# Altium schematic symbol library Indication & Control.SchLib: 13 symbols
Pins are listed as number, name and electrical type; pins without a type are passive.

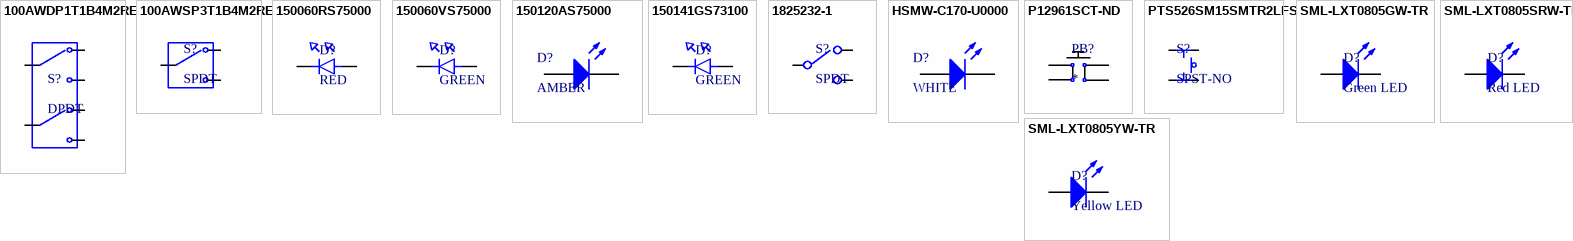
[diagram p0: symbols 100AWDP1T1B4M2RE to SML-LXT0805YW-TR]

## 100AWDP1T1B4M2RE
designator S?, comment DPDT
SWITCH TOGGLE DPDT 0.4VA 20V; Manufacturer: E-Switch; Manufacturer Part Number: 100AWDP1T1B4M2RE; Actuator Material: Brass,Chrome; Switch Function: On-On; Actuator Type: Standard Round; Current Rating: 400mA; Illumination Type: Non-Illuminated; Electrical Life: 30000Cycles; Actuator Length: 12.7mm; Ratings: IP67,Waterproof,Dust Tight; Supplier 1: Digi-Key; Supplier Part Number 1: EG2443-ND; RoHS: Yes; Category: Toggle Switches; Stock 1: 231; Mount: Through Hole; Contact Material: Copper Alloy; Contact Plating: Gold; Min Operating Temperature: -30°C; Max Operating Temperature: 85°C; Package Quantity: 1; Voltage Rating (AC): 20V; Voltage Rating (DC): 20V; Packaging: Bulk; Orientation: Vertical; Throw Configuration: DPDT; Termination: PC Pin; Length: 12.8mm; Width: 11.5mm; Lead Free: Lead Free; ComponentLink1URL: https://datasheet.ciiva.com/2904/t102102c-2904874.pdf?src-supplier=Digi-Key; ComponentLink1Description: https://datasheet.ciiva.com/2904/t102102c-2904874.pdf?src-supplier=Digi-Key
footprint 100AWDP1T1B4M2RE
pins: 1 NO1, 2 COM1, 3 NC1, 4 NO2, 5 COM2, 6 NC2

## 100AWSP3T1B4M2RE
designator S?, comment SPDT
SWITCH TOGGLE SPDT 0.4VA 20V; Manufacturer: E-Switch; Manufacturer Part Number: 100AWSP3T1B4M2RE; Actuator Material: Brass,Chrome; Illumination Type: Non-Illuminated,Illuminated; Electrical Life: 30000Cycles; Switch Function: On-Off-On; Actuator Type: Standard Round; Current Rating: 400mA; Actuator Length: 12.7mm; Ratings: IP67,Waterproof,Dust Tight; Supplier 1: Digi-Key; Supplier Part Number 1: EG2437-ND; RoHS: Yes; Category: Toggle Switches; Stock 1: 164; Mount: Through Hole; Contact Material: Gold; Contact Plating: Gold; Min Operating Temperature: -30°C; Max Operating Temperature: 85°C; Termination: PC Pin; Throw Configuration: SPDT; Orientation: Vertical; Package Quantity: 1; Voltage Rating (AC): 20V; Voltage Rating (DC): 20V; Packaging: Bulk; Length: 12.8mm; Width: 6.91mm; Lead Free: Lead Free; ComponentLink1URL: https://datasheet.ciiva.com/1194/100a-1-1194224.pdf?src-supplier=Newark; ComponentLink1Description: https://datasheet.ciiva.com/1194/100a-1-1194224.pdf?src-supplier=Newark; ComponentLink2URL: https://datasheet.ciiva.com/2904/t201111-2904864.pdf?src-supplier=Digi-Key; ComponentLink2Description: https://datasheet.ciiva.com/2904/t201111-2904864.pdf?src-supplier=Digi-Key
footprint 100AWSP3T1B4M2RE
pins: 1 NO, 2 COM, 3 NC

## 150060RS75000
designator D?, comment RED
WURTH ELEKTRONIK - 150060RS75000 - LED, Red, 625 nm, 2 V, 30 mA, 250 mcd RoHS Compliant: Yes; Manufacturer: Wurth Electronics; Viewing Angle: 140°; Lens Style: Clear,Rectangular; Luminous Intensity: 250mcd; Forward Current: 30mA; Forward Voltage: 2V; Wavelength: 625nm; Test Current: 20mA; Supplier 1: Digi-Key; Supplier Part Number 1: 732-4978-1-ND; Manufacturer Part Number: 150060RS75000; RoHS: Yes; Category: LEDs; Stock 1: 19381; Mount: Surface Mount; Case/Package: 0603; Case Code (Imperial): 0603; Color: Red; Case Code (Metric): 1608; Min Operating Temperature: -40°C; Max Operating Temperature: 85°C; Package Quantity: 1; Packaging: Cut Tape; Dominant Wavelength: 625nm; Length: 1.6mm; Height: 0.7mm; Width: 0.8mm; REACH SVHC: Unknown; ComponentLink1URL: https://datasheet.ciiva.com/29563/150060rs75000-29563040.pdf?src-supplier=Digi-Key; ComponentLink1Description: https://datasheet.ciiva.com/29563/150060rs75000-29563040.pdf?src-supplier=Digi-Key; ComponentLink2URL: https://datasheet.ciiva.com/29279/759428-da-01-en-chipled-0603-w-kl-rot-150060rs75000-29279196.pdf?src-supplier=Conrad; ComponentLink2Description: https://datasheet.ciiva.com/29279/759428-da-01-en-chipled-0603-w-kl-rot-150060rs75000-29279196.pdf?src-supplier=Conrad
footprint 0603 LED
pins: 1, 2

## 150060VS75000
designator D?, comment GREEN
WURTH ELEKTRONIK - 150060VS75000 - LED, Grün, Oberflächenmontage, 603, 30 mA, 2 V, 570 nm; Manufacturer: Wurth Electronics; Luminous Intensity: 40mcd; Viewing Angle: 140°; Forward Voltage: 2V; Wavelength: 570nm; Lens Style: Clear,Rectangular; Forward Current: 30mA; Test Current: 20mA; Supplier 1: Digi-Key; Supplier Part Number 1: 732-4980-1-ND; Manufacturer Part Number: 150060VS75000; RoHS: Yes; Category: LEDs; Stock 1: 29022; Mount: Surface Mount; Case/Package: 0603; Number of Pins: 2; Case Code (Metric): 1608; Case Code (Imperial): 0603; Color: Green; Min Operating Temperature: -40°C; Max Operating Temperature: 85°C; Package Quantity: 1; Packaging: Tape and Reel; Dominant Wavelength: 570nm; Length: 1.6mm; Height: 0.7mm; Width: 0.8mm; REACH SVHC: Unknown; ComponentLink1URL: https://datasheet.ciiva.com/29562/150060vs75000-29562919.pdf?src-supplier=Digi-Key; ComponentLink1Description: https://datasheet.ciiva.com/29562/150060vs75000-29562919.pdf?src-supplier=Digi-Key
footprint 0603 LED
pins: 1, 2

## 150120AS75000
designator D?, comment AMBER
WURTH ELEKTRONIK   150120AS75000   LED, 1206, AMBER, 140MCD, 605NM; Manufacturer 1: Wurth Electronics; Color: Orange; Forward Current: 30mA; Forward Voltage: 2V; Viewing Angle: 140°; Lens Style: Clear,Rectangular; Test Current: 20mA; Supplier 1: Digi-Key; Manufacturer Part Number 1: 150120AS75000; Stock 1: 2478; Pricing 1: 1=0.21000, 50=0.19800, 100=0.17100, 500=0.14800 (USD); RoHS: Yes; Mount: Surface Mount; Case/Package: 1206; Case Code (Metric): 3216; Case Code (Imperial): 1206; Min Operating Temperature: -40°C; Max Operating Temperature: 85°C; Luminous Intensity: 140mcd; Package Quantity: 3000; Packaging: Tape and Reel; Wavelength: 605nm; Dominant Wavelength: 605nm; Length: 3.2mm; Height: 0.68mm; Width: 1.6mm; REACH SVHC: Unknown; ComponentLink1URL: https://datasheet.ciiva.com/29561/150120as75000-29561877.pdf?src-supplier=Digi-Key; ComponentLink1Description: https://datasheet.ciiva.com/29561/150120as75000-29561877.pdf?src-supplier=Digi-Key; ComponentLink2URL: https://datasheet.ciiva.com/29279/759439-da-01-en-chipled-1206-w-kl-amb-150120as75000-29279037.pdf?src-supplier=Conrad; ComponentLink2Description: https://datasheet.ciiva.com/29279/759439-da-01-en-chipled-1206-w-kl-amb-150120as75000-29279037.pdf?src-supplier=Conrad; ComponentLink3URL: https://datasheet.ciiva.com/29561/150120as75000-29561878.pdf?src-supplier=Digi-Key; ComponentLink3Description: https://datasheet.ciiva.com/29561/150120as75000-29561878.pdf?src-supplier=Digi-Key; ComponentLink4URL: https://datasheet.ciiva.com/29561/150120as75000-29561879.pdf?src-supplier=Digi-Key; ComponentLink4Description: https://datasheet.ciiva.com/29561/150120as75000-29561879.pdf?src-supplier=Digi-Key; Supplier Part Number 1: 732-4988-1-ND
footprint 1206 LED
pins: 1 K, 2 A

## 150141GS73100
designator D?, comment GREEN
WURTH ELEKTRONIK - 150141GS73100 - GREEN LED, Montage sur le dessus, Transparent, Verte CMS, 30 mA, 3,1 V, 525 nm; Manufacturer: Wurth Electronics; Dominant Wavelength: 525nm; Test Current: 20mA; Luminous Intensity: 1000mcd; Viewing Angle: 120°; Forward Voltage: 3.1V; Lens Style: Clear,Round; Forward Current: 30mA; Supplier 1: Digi-Key; Supplier Part Number 1: 732-4997-1-ND; Manufacturer Part Number: 150141GS73100; RoHS: Yes; Category: LEDs; Stock 1: 10716; Mount: Surface Mount; Case/Package: 3528; Case Code (Imperial): 1411; Case Code (Metric): 3528; Color: Green; Min Operating Temperature: -40°C; Max Operating Temperature: 85°C; Wavelength: 525nm; Packaging: Cut Tape; Package Quantity: 2000; Length: 3.5mm; Height: 1.9mm; Width: 2.8mm; REACH SVHC: Unknown; Lead Free: Lead Free; ComponentLink1URL: https://datasheet.ciiva.com/23843/150141gs73100-23843266.pdf?src-supplier=Newark; ComponentLink1Description: https://datasheet.ciiva.com/23843/150141gs73100-23843266.pdf?src-supplier=Newark; ComponentLink2URL: https://datasheet.ciiva.com/29278/759463-da-01-en-smd-topled-einf-gruen-150141gs73100-29278953.pdf?src-supplier=Conrad; ComponentLink2Description: https://datasheet.ciiva.com/29278/759463-da-01-en-smd-topled-einf-gruen-150141gs73100-29278953.pdf?src-supplier=Conrad; ComponentLink3URL: https://datasheet.ciiva.com/22656/1911484-22656997.pdf?src-supplier=Element14; ComponentLink3Description: https://datasheet.ciiva.com/22656/1911484-22656997.pdf?src-supplier=Element14; ComponentLink4URL: https://datasheet.ciiva.com/29563/150141gs73100-29563029.pdf?src-supplier=Digi-Key; ComponentLink4Description: https://datasheet.ciiva.com/29563/150141gs73100-29563029.pdf?src-supplier=Digi-Key; ComponentLink5URL: https://datasheet.ciiva.com/29563/150141gs73100-29563030.pdf?src-supplier=Digi-Key; ComponentLink5Description: https://datasheet.ciiva.com/29563/150141gs73100-29563030.pdf?src-supplier=Digi-Key; ComponentLink6URL: https://datasheet.ciiva.com/48430/150141gs73100-eng-tds-48430060.pdf?src-supplier=Distrelec; ComponentLink6Description: https://datasheet.ciiva.com/48430/150141gs73100-eng-tds-48430060.pdf?src-supplier=Distrelec
footprint D1411
pins: 1 -, 2 +

## 1825232-1
designator S?, comment SPDT
Slide Switches SLIDE SWITCH SPDT Right Angle; Manufacturer: TE Connectivity AMP; Manufacturer Part Number: 1825232-1; Mechanical Life: 10000Cycles; Actuator Material: Nylon; Voltage Rating (DC): 30V; Current Rating: 200mA; Operating Force: 200gf; Contact Style: Non-Shorting; Switch Travel: 2mm; Number of Positions: 2; PCB Mount Retention: With; Switch Function: On-On; Actuator Type: Standard; Actuator Length: 0.118inch; Tail Length: 0.094inch; Supplier 1: Digi-Key; Supplier Part Number 1: A107673-ND; RoHS: Yes; Category: Slide Switches; Stock 1: 12423; Mount: Through Hole; Contact Material: Copper Alloy; Contact Plating: Silver; Min Operating Temperature: -20°C; Max Operating Temperature: 70°C; Throw Configuration: SPDT; Package Quantity: 19200; Packaging: Tray; Max Voltage Rating (DC): 30V; Termination: PC Pin; Electrical Life: 10000Cycles; Orientation: Right Angle; Contact Current Rating: 200mA; Type: Switch; Length: 0.3563inch; Width: 4.3mm; ELV: Compliant; Flammability Rating: UL94 HB; ComponentLink1URL: https://datasheet.ciiva.com/15085/eng-cd-1825232-b2-15085854.pdf?src-supplier=Digi-Key; ComponentLink1Description: https://datasheet.ciiva.com/15085/eng-cd-1825232-b2-15085854.pdf?src-supplier=Digi-Key
footprint 1825232-1
pins: 1 NC, 2 COM, 3 NO

## HSMW-C170-U0000
designator D?, comment WHITE
Led, White, 670MCD, 0805; Manufacturer 1: Broadcom Avago; Manufacturer Part Number 1: HSMW-C170-U0000; Lens Style: Flat; Forward Voltage: 3.4V; Test Current: 20mA; Viewing Angle: 170°; Lens Size: 1.25mm; Supplier 1: Digi-Key; Stock 1: 12232; Pricing 1: 1=1.05000, 10=0.81600, 100=0.52470, 500=0.44308, 1000=0.34980 (USD); RoHS: No; Mount: Surface Mount; Case/Package: 0805; Color: White; Case Code (Imperial): 0805; Case Code (Metric): 2012; Packaging: Cut Tape; Luminous Intensity: 670mcd; Length: 2mm; Height: 0.9mm; Width: 1.25mm; ComponentLink1URL: https://docs.broadcom.com/docs/HSMW-C170-U0000-DS100?src-supplier=Digi-Key; ComponentLink1Description: https://docs.broadcom.com/docs/HSMW-C170-U0000-DS100?src-supplier=Digi-Key; Supplier Part Number 1: 516-3993-1-ND
footprint 0805 LED
pins: 1 K, 2 A

## P12961SCT-ND
designator PB?
SWITCH TACTILE SPST-NO 0.02A 15V; Manufacturer 1: Panasonic; Manufacturer Part Number 1: EVQ-Q2Y03W; Mechanical Life: 100000Cycles; Operating Force: 3.5N; Contact Current Rating: 20mA; Contact Resistance: 100mR; Number of Poles: 1; Voltage Rating (AC): 250V; Throw Configuration: SPST; Illumination Type: Non-Illuminated,Illuminated; Switch Travel: 0.25mm; Switch Function: Off-Mom; Actuator Type: Standard; Actuator Length: 1.3mm; Supplier 1: Digi-Key; Stock 1: 209620; Pricing 1: 1=0.30000, 10=0.28600, 25=0.27520, 50=0.26520, 100=0.25490, 250=0.23452, 500=0.20394, 1000=0.17335 (USD); RoHS: Yes; Mount: Surface Mount; Case/Package: SMD/SMT; Color: White; Min Operating Temperature: -40°C; Max Operating Temperature: 85°C; Current Rating: 20mA; Voltage Rating (DC): 15V; Packaging: Tape and Reel; Package Quantity: 1; Max Current Rating: 20mA; Max Voltage Rating (DC): 15V; Termination: SMD/SMT; Electrical Life: 100000Cycles; Orientation: Straight; Length: 6mm; Height: 3.1mm; Width: 6mm; Depth: 6.6mm; Thickness: 1.8mm; Radiation Hardening: No; REACH SVHC: Unknown; Lead Free: Lead Free; ComponentLink1URL: https://datasheet.ciiva.com/25603/0900766b810ad3e5-25603840.pdf?src-supplier=RSComponents; ComponentLink1Description: https://datasheet.ciiva.com/25603/0900766b810ad3e5-25603840.pdf?src-supplier=RSComponents; ComponentLink2URL: https://datasheet.ciiva.com/2901/atk0000ce28-2901284.pdf?src-supplier=Digi-Key; ComponentLink2Description: https://datasheet.ciiva.com/2901/atk0000ce28-2901284.pdf?src-supplier=Digi-Key; ComponentLink3URL: https://datasheet.ciiva.com/2901/atk0000ce28-2901285.pdf?src-supplier=Digi-Key; ComponentLink3Description: https://datasheet.ciiva.com/2901/atk0000ce28-2901285.pdf?src-supplier=Digi-Key; ComponentLink4URL: https://datasheet.ciiva.com/2901/atk0000ce28-2901286.pdf?src-supplier=Digi-Key; ComponentLink4Description: https://datasheet.ciiva.com/2901/atk0000ce28-2901286.pdf?src-supplier=Digi-Key; ComponentLink5URL: https://datasheet.ciiva.com/30127/8atk0000ce28-30127814.pdf?src-supplier=Onlinecomponents.com; ComponentLink5Description: https://datasheet.ciiva.com/30127/8atk0000ce28-30127814.pdf?src-supplier=Onlinecomponents.com; ComponentLink6URL: https://datasheet.ciiva.com/8165/atk0000ce28-8165191.pdf?src-supplier=Avnet; ComponentLink6Description: https://datasheet.ciiva.com/8165/atk0000ce28-8165191.pdf?src-supplier=Avnet; ComponentLink7URL: https://datasheet.ciiva.com/17099/70270561-17099386.pdf?src-supplier=Allied+Electronics; ComponentLink7Description: https://datasheet.ciiva.com/17099/70270561-17099386.pdf?src-supplier=Allied+Electronics; ComponentLink8URL: https://datasheet.ciiva.com/5685/28111-5685339.pdf?src-supplier=Farnell; ComponentLink8Description: https://datasheet.ciiva.com/5685/28111-5685339.pdf?src-supplier=Farnell; ComponentLink9URL: https://datasheet.ciiva.com/16438/atk0000ce28-16438079.pdf?src-supplier=Future+Electronics; ComponentLink9Description: https://datasheet.ciiva.com/16438/atk0000ce28-16438079.pdf?src-supplier=Future+Electronics; Supplier Part Number 1: P12961SDKR-ND
footprint P12961SCT-ND (SWITCH TACTILE SPST-NO 0.02A 15V)
pins: 1 A, 2 A', 3 B, 4 B'

## PTS526SM15SMTR2LFS
designator S?, comment SPST-NO
TACT 5.2 X 5.2, 1.5 MM H, 160GF, Tactile Switch SPST-NO Top Actuated Surface Mount; Manufacturer: ITT C&K; Manufacturer Part Number: PTS526SM15SMTR2LFS; Supplier 1: Digi-Key; Supplier Part Number 1: CKN12220-1-ND; RoHS: No; Stock 1: 5534
footprint PTS526 SM15 SMTR2 LFS
pins: 1 COM, 2 COM, 3 NO, 4 NO

## SML-LXT0805GW-TR
designator D?, comment Green LED
LED GREEN DIFFUSED SMD; Manufacturer: Lumex; Manufacturer Part Number: SML-LXT0805GW-TR; Lens Color: White; Viewing Angle: 140°; Lens Style: Rectangular; Luminous Intensity: 11mcd; Forward Voltage: 2V; Wavelength: 565nm; Forward Current: 20mA; Power Rating: 50mW; Dominant Wavelength: 568nm; Number of LEDs: 1; Approvals: UL; Supplier 1: Digi-Key; Supplier Part Number 1: 67-1553-1-ND; Stock 1: 417501; Pricing 1: 1 = 0.41000, 10 = 0.29000, 25 = 0.25160, 100 = 0.19360, 250 = 0.15732, 500 = 0.11616, 1000 = 0.09680 (USD); RoHS: Yes; Mount: Surface Mount; Case/Package: 0805; Number of Pins: 2; Color: Green; Case Code (Metric): 2012; Case Code (Imperial): 0805; Min Operating Temperature: -25°C; Max Operating Temperature: 85°C; Package Quantity: 1; Packaging: Tape and Reel; Illumination Color: Green; Test Current: 20mA; Lens Transparency: Diffused; Length: 2mm; Height: 0.8mm; Width: 1.25mm; REACH SVHC: No SVHC; Lead Free: Lead Free; ComponentLink1URL: https://datasheet.ciiva.com/2110/sml-lxt0805gw-tr-2110192.pdf?src-supplier=Digi-Key; ComponentLink1Description: https://datasheet.ciiva.com/2110/sml-lxt0805gw-tr-2110192.pdf?src-supplier=Digi-Key; ComponentLink2URL: https://datasheet.ciiva.com/4689/sml-lxt0805gw-tr-82662-4689266.pdf?src-supplier=Mouser; ComponentLink2Description: https://datasheet.ciiva.com/4689/sml-lxt0805gw-tr-82662-4689266.pdf?src-supplier=Mouser; ComponentLink3URL: https://datasheet.ciiva.com/30063/sml-lxt0805gw-tr-30063898.pdf?src-supplier=Onlinecomponents.com; ComponentLink3Description: https://datasheet.ciiva.com/30063/sml-lxt0805gw-tr-30063898.pdf?src-supplier=Onlinecomponents.com; ComponentLink4URL: https://datasheet.ciiva.com/2110/sml-lxt0805gw-tr-2110193.pdf?src-supplier=Digi-Key; ComponentLink4Description: https://datasheet.ciiva.com/2110/sml-lxt0805gw-tr-2110193.pdf?src-supplier=Digi-Key; ComponentLink5URL: https://datasheet.ciiva.com/2110/sml-lxt0805gw-tr-2110194.pdf?src-supplier=Digi-Key; ComponentLink5Description: https://datasheet.ciiva.com/2110/sml-lxt0805gw-tr-2110194.pdf?src-supplier=Digi-Key; ComponentLink6URL: https://datasheet.ciiva.com/16383/sml-lxt0805gw-tr-16383723.pdf?src-supplier=Future+Electronics; ComponentLink6Description: https://datasheet.ciiva.com/16383/sml-lxt0805gw-tr-16383723.pdf?src-supplier=Future+Electronics; Category: Optoelectronics
footprint L0805
pins: 1 A, 2 K

## SML-LXT0805SRW-TR
designator D?, comment Red LED
LED RED DIFFUSED 0805 SMD; Manufacturer: Lumex; Manufacturer Part Number: SML-LXT0805SRW-TR; Lens Color: White; Forward Current: 20mA; Forward Voltage: 1.8V; Power Rating: 80mW; Luminous Intensity: 21mcd; Viewing Angle: 140°; Wavelength: 660nm; Number of LEDs: 1; Supplier 1: Digi-Key; Supplier Part Number 1: 67-1555-1-ND; Stock 1: 60948; Pricing 1: 1 = 0.51000, 10 = 0.36600, 25 = 0.28080, 100 = 0.18320, 250 = 0.13432, 500 = 0.11396, 1000 = 0.09361 (USD); RoHS: Yes; Mount: Surface Mount; Case/Package: 0805; Number of Pins: 2; Color: Red; Case Code (Metric): 2012; Case Code (Imperial): 0805; Min Operating Temperature: -25°C; Max Operating Temperature: 80°C; Illumination Color: Red; Packaging: Tape and Reel; Lens Style: Diffused; Package Quantity: 1; Test Current: 20mA; Lens Transparency: Diffused; Length: 2mm; Height: 0.8mm; Width: 1.25mm; REACH SVHC: No SVHC; Lead Free: Lead Free; ComponentLink1URL: https://datasheet.ciiva.com/15967/smllxt0805srwtr-15967412.pdf?src-supplier=Onlinecomponents.com; ComponentLink1Description: https://datasheet.ciiva.com/15967/smllxt0805srwtr-15967412.pdf?src-supplier=Onlinecomponents.com; ComponentLink2URL: https://datasheet.ciiva.com/4688/sml-lxt0805srw-tr-114457-4688733.pdf?src-supplier=Mouser; ComponentLink2Description: https://datasheet.ciiva.com/4688/sml-lxt0805srw-tr-114457-4688733.pdf?src-supplier=Mouser; ComponentLink3URL: https://datasheet.ciiva.com/2110/sml-lxt0805srw-tr-2110039.pdf?src-supplier=Digi-Key; ComponentLink3Description: https://datasheet.ciiva.com/2110/sml-lxt0805srw-tr-2110039.pdf?src-supplier=Digi-Key; ComponentLink4URL: https://datasheet.ciiva.com/2110/sml-lxt0805srw-tr-2110040.pdf?src-supplier=Digi-Key; ComponentLink4Description: https://datasheet.ciiva.com/2110/sml-lxt0805srw-tr-2110040.pdf?src-supplier=Digi-Key; ComponentLink5URL: https://datasheet.ciiva.com/2110/sml-lxt0805srw-tr-2110041.pdf?src-supplier=Digi-Key; ComponentLink5Description: https://datasheet.ciiva.com/2110/sml-lxt0805srw-tr-2110041.pdf?src-supplier=Digi-Key; ComponentLink6URL: https://datasheet.ciiva.com/16376/sml-lxt0805srw-tr-16376845.pdf?src-supplier=Future+Electronics; ComponentLink6Description: https://datasheet.ciiva.com/16376/sml-lxt0805srw-tr-16376845.pdf?src-supplier=Future+Electronics; Category: Optoelectronics
footprint L0805
pins: 1 A, 2 K

## SML-LXT0805YW-TR
designator D?, comment Yellow LED
LED; Yellow; 10mcd; SMD; 100mA; 2.1V; 140deg; 585nm; Diffused; 5V; 50mW; -25degC; Manufacturer: Lumex; Manufacturer Part Number: SML-LXT0805YW-TR; Lens Color: White; Viewing Angle: 140°; Lens Style: Rectangular; Forward Current: 20mA; Number of LEDs: 1; Approvals: UL; Supplier 1: Digi-Key; Supplier Part Number 1: 67-1554-1-ND; Stock 1: 129042; Pricing 1: 1 = 0.38000, 10 = 0.27100, 25 = 0.23440, 100 = 0.18040, 250 = 0.14656, 500 = 0.10824, 1000 = 0.09020 (USD); RoHS: Yes; Mount: Surface Mount; Case/Package: 0805; Number of Pins: 2; Color: Yellow; Case Code (Metric): 2012; Case Code (Imperial): 0805; Min Operating Temperature: -25°C; Max Operating Temperature: 85°C; Wavelength: 585nm; Package Quantity: 1; Packaging: Tape and Reel; Luminous Intensity: 10mcd; Forward Voltage: 2.1V; Illumination Color: Yellow; Power Rating: 50mW; Test Current: 20mA; Lens Transparency: Diffused; Dominant Wavelength: 585nm; Length: 2mm; Height: 0.8mm; Width: 1.25mm; REACH SVHC: No SVHC; Lead Free: Lead Free; ComponentLink1URL: https://datasheet.ciiva.com/4689/sml-lxt0805yw-tr-114463-4689131.pdf?src-supplier=Mouser; ComponentLink1Description: https://datasheet.ciiva.com/4689/sml-lxt0805yw-tr-114463-4689131.pdf?src-supplier=Mouser; ComponentLink2URL: https://datasheet.ciiva.com/15967/sml-lxt0805yw-tr-15967416.pdf?src-supplier=Onlinecomponents.com; ComponentLink2Description: https://datasheet.ciiva.com/15967/sml-lxt0805yw-tr-15967416.pdf?src-supplier=Onlinecomponents.com; ComponentLink3URL: https://datasheet.ciiva.com/2110/sml-lxt0805yw-tr-2110162.pdf?src-supplier=Digi-Key; ComponentLink3Description: https://datasheet.ciiva.com/2110/sml-lxt0805yw-tr-2110162.pdf?src-supplier=Digi-Key; ComponentLink4URL: https://datasheet.ciiva.com/8072/sml-lxt0805yw-tr-8072917.pdf?src-supplier=Element14; ComponentLink4Description: https://datasheet.ciiva.com/8072/sml-lxt0805yw-tr-8072917.pdf?src-supplier=Element14; ComponentLink5URL: https://datasheet.ciiva.com/2110/sml-lxt0805yw-tr-2110163.pdf?src-supplier=Digi-Key; ComponentLink5Description: https://datasheet.ciiva.com/2110/sml-lxt0805yw-tr-2110163.pdf?src-supplier=Digi-Key; ComponentLink6URL: https://datasheet.ciiva.com/2110/sml-lxt0805yw-tr-2110164.pdf?src-supplier=Digi-Key; ComponentLink6Description: https://datasheet.ciiva.com/2110/sml-lxt0805yw-tr-2110164.pdf?src-supplier=Digi-Key; ComponentLink7URL: https://datasheet.ciiva.com/30084/sml-lxt0805yw-tr-30084235.pdf?src-supplier=Onlinecomponents.com; ComponentLink7Description: https://datasheet.ciiva.com/30084/sml-lxt0805yw-tr-30084235.pdf?src-supplier=Onlinecomponents.com; ComponentLink8URL: https://datasheet.ciiva.com/14603/70127240-14603821.pdf?src-supplier=Allied+Electronics; ComponentLink8Description: https://datasheet.ciiva.com/14603/70127240-14603821.pdf?src-supplier=Allied+Electronics; Category: Optoelectronics
footprint L0805
pins: 1 A, 2 K